# Altium schematic symbol library Current_Sense_Amplifiers.SchLib: 1 symbol
Pins are listed as number, name and electrical type; pins without a type are passive.

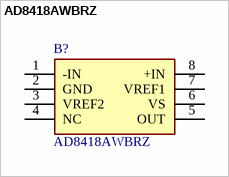
[diagram p0: symbol AD8418AWBRZ]

## AD8418AWBRZ
designator B?
Bidir.Zero-Drift Current Sense Amp SOIC8 Analog Devices AD8418AWBRZ, Current Sensing Amplifier Single Buffered 8-Pin SOIC; Geometry.Height: 1.1mm; Manufacturer_Name: Analog Devices; Manufacturer_Part_Number: AD8418AWBRZ; Mouser Part Number: 584-AD8418AWBRZ; Mouser Price/Stock: https://www.mouser.co.uk/ProductDetail/Analog-Devices/AD8418AWBRZ?qs=%2F9jDaHz9Z2grAr7OTzLKmg%3D%3D; Arrow Part Number: AD8418AWBRZ; Arrow Price/Stock: https://www.arrow.com/en/products/ad8418awbrz/analog-devices?utm_currency=USD&region=nac; Datasheet Link: http://www.analog.com/media/en/technical-documentation/data-sheets/AD8418A.pdf
footprint SOP65P490X110-8N
pins: 1 -IN, 2 GND, 3 VREF2, 4 NC, 5 OUT, 6 VS, 7 VREF1, 8 +IN